# Altium footprint library axsem_connectors_v1-13.PCBLIB: 46 footprints (part 3 of 3)
Each footprint in its own frame and in the unit in brackets; x right, y up, seen from the top. Pads: shape width x height; smd on the part's side, far side on the other; paste and mask are expansions set on the pad; w line width, h text height; cw(c..) or ccw(c..) is an arc to the next point about the centre after c.
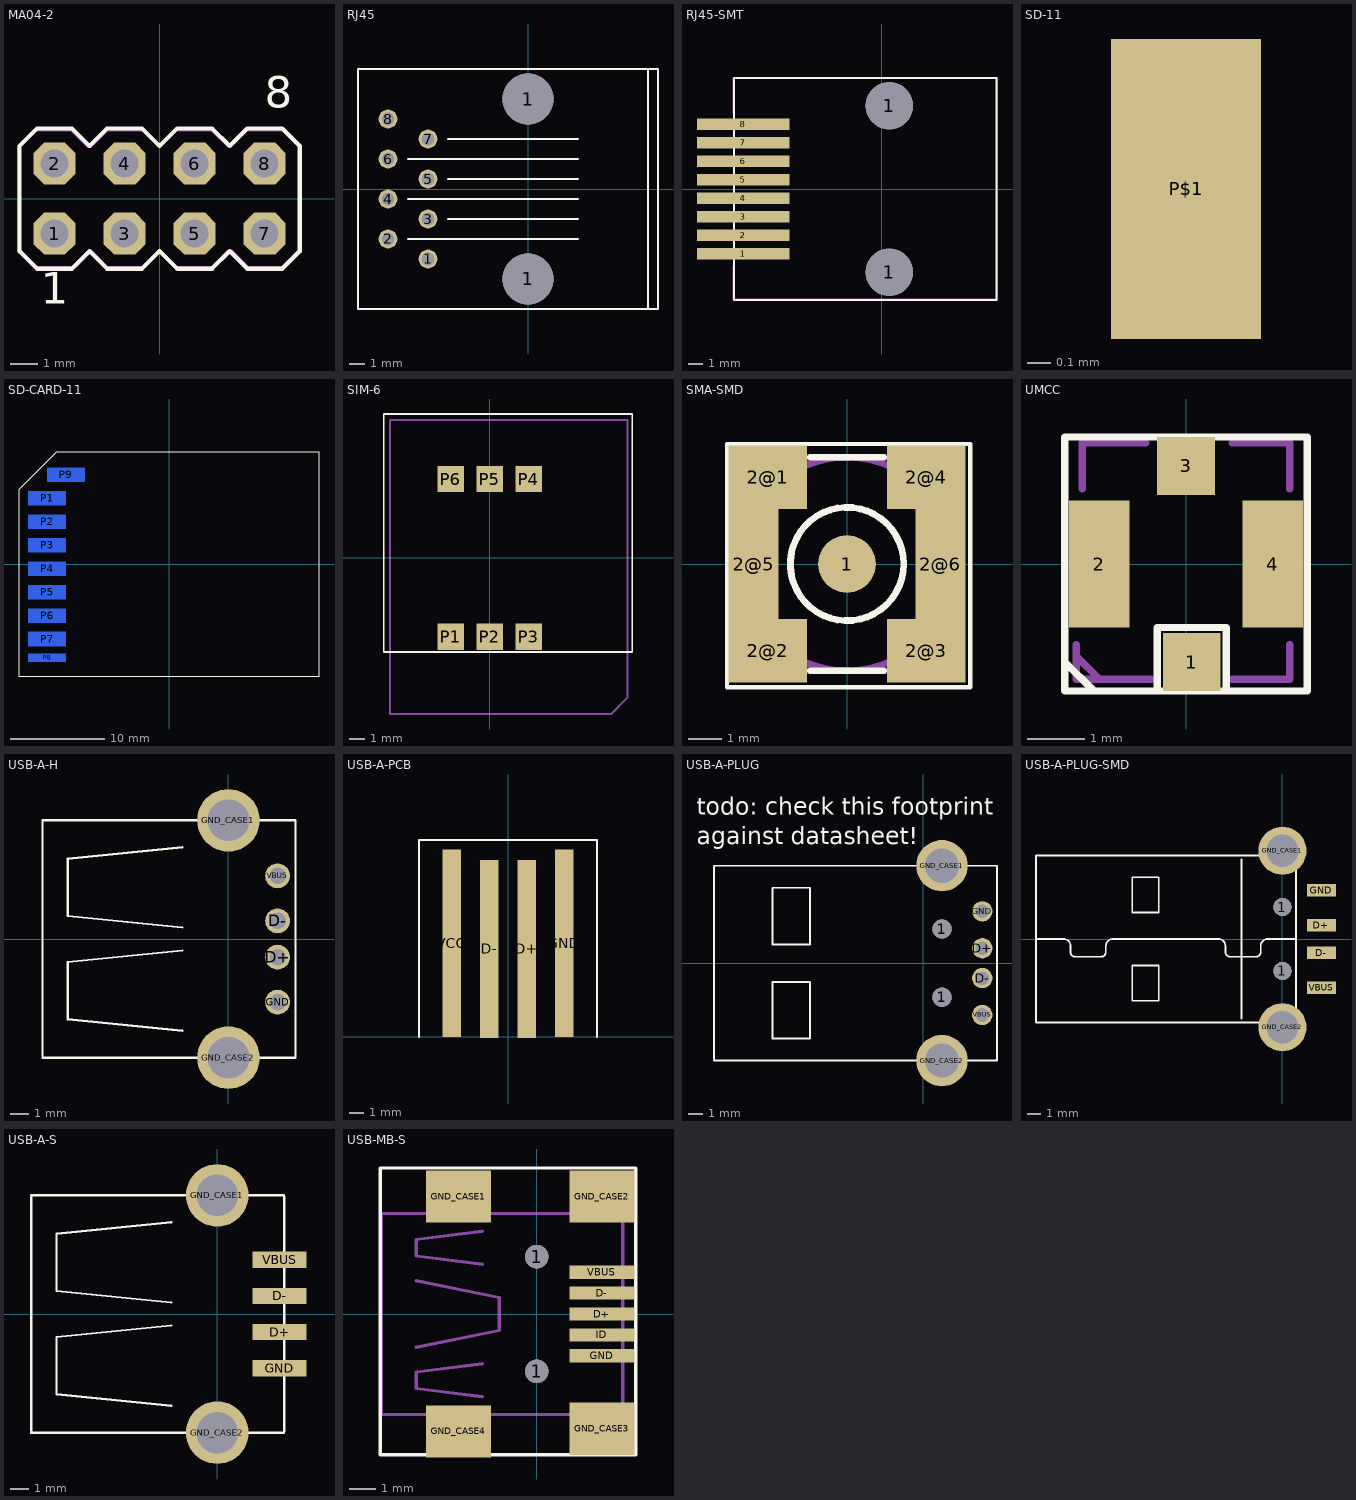
[diagram p2: the footprints below, top view; thin cyan lines are the x and y axes]

## MA04-2 [mil]
pads (8):
  oct 60x60 hole 40: 1(-150,-50) 2(-150,50) 3(-50,-50) 4(-50,50) 5(50,-50) 6(50,50) 7(150,-50) 8(150,50)
Top Overlay:
  lines w6: -200,-75 -200,75 -175,100 -125,100 -100,75 -75,100 -25,100 0,75 25,100 75,100 100,75 125,100 175,100 200,75 200,-75 175,-100 125,-100 100,-75 75,-100 25,-100 0,-75 -25,-100 -75,-100 -100,-75 -125,-100 -175,-100 -200,-75
  text "1" at -170,-165 h77.5
  text "8" at 150,115 h77.5
Mechanical 16:
  rectangle: -60,-60 -40,-40
  rectangle: -160,-60 -140,-40
  rectangle: 40,-60 60,-40
  rectangle: 140,-60 160,-40
  rectangle: -160,40 -140,60
  rectangle: -60,40 -40,60
  rectangle: 40,40 60,60
  rectangle: 140,40 160,60
  lines w5: -200.79,-74.8 -200.79,74.8 -177.17,98.43 -125.98,98.43 -102.36,74.8 -98.43,74.8 -74.8,98.43 -23.62,98.43 0,74.8 23.62,98.43 74.8,98.43 98.43,74.8 122.05,98.43 177.17,98.43 200.79,74.8 200.79,-74.8 177.17,-98.43 125.98,-98.43 102.36,-74.8 98.43,-74.8 74.8,-98.43 23.62,-98.43 0,-74.8 -23.62,-98.43 -74.8,-98.43 -98.43,-74.8 -122.05,-98.43 -177.17,-98.43 -200.79,-74.8

## RJ45 [mil]
pads (10):
  round 47.25 hole 31.5: 1(-250,-175) 2(-350,-125) 3(-250,-75) 4(-350,-25) 5(-250,25) 6(-350,75) 7(-250,125) 8(-350,175)
  round 127.95 hole 127.95: 1(0,-225) 1(0,225)
Top Overlay:
  lines w5: -300,-125 125,-125 ; -300,-25 125,-25 ; -300,75 125,75 ; -200,-75 125,-75 ; -200,25 125,25 ; -200,125 125,125 ; 300,-300 325,-300 325,300 300,300 ; 300,-300 -425,-300 -425,300 300,300 ; 300,-300 300,300

## RJ45-SMT [mil]
pads (10):
  rect 250x30 smd: 1(-375,-175) 2(-375,-125) 3(-375,-75) 4(-375,-25) 5(-375,25) 6(-375,75) 7(-375,125) 8(-375,175)
  round 128 hole 128: 1(20,-225) 1(20,225)
Top Overlay:
  lines w5: -400,-300 -400,300 310,300 310,-300 -400,-300
Mechanical 16:
  lines w5: -401.57,-207.87 -401.57,-298.43 311.02,-298.43 311.02,300 -401.57,300 -401.57,205.51

## SD-11 [mil]
pads (1):
  rect 25x50 smd: P$1(-35.43,-51.18)

## SD-CARD-11 [mm]
pads (9):
  rect 4x1.5 smd far side: P1(-13,7) P2(-13,4.5) P3(-13,2) P4(-13,-0.5) P5(-13,-3) P6(-13,-5.5) P7(-13,-8) P9(-11,9.5)
  rect 4x0.9 smd far side: P8(-13,-10)
Top Overlay:
  lines w0.127: -16,-12 -16,8 -12,12 16,12 16,-12 -16,-12

## SIM-6 [mil]
pads (6):
  rect 68.5x68.5 smd: P1(-101.18,-205.12) P2(0,-205.12) P3(101.18,-205.12) P4(101.18,205.12) P5(0,205.12) P6(-101.18,205.12)
Top Overlay:
  lines w5: -275.59,-244.49 370.08,-244.49 370.08,374.02 -275.59,374.02 -275.59,-244.49
Mechanical 16:
  lines w5: -259.84,358.27 -259.84,-405.51 314.96,-405.51 358.27,-362.2 358.27,358.27 -255.91,358.27

## SMA-SMD [mm]
pads (7):
  rrect100% 1.73x1.73 smd: 1(0,0)
  rect 2.35x1.9 smd: 2@1(-2.375,2.6) 2@2(-2.375,-2.6) 2@3(2.375,-2.6) 2@4(2.375,2.6)
  rect 1.5x3.4 smd: 2@5(-2.8,0) 2@6(2.8,0)
Top Overlay:
  circle w0.203: c0,0 r1.7
  lines w0.127: -3.6,-3.7 -3.6,3.6 3.7,3.6 3.7,-3.7 -3.6,-3.7
  lines w0.203: -1.1,-3.2 1.1,-3.2 ; -1.1,3.2 1.1,3.2
Mechanical 16:
  circle w0.203: c0,0 r3.2
  lines w0.203: -3.2,-3.2 3.2,-3.2 3.2,3.2 -3.2,3.2 -3.2,-3.2

## UMCC [mm]
pads (4):
  rect 1x1 smd: 1(0.1,-1.7) 3(0,1.7)
  rect 1.05x2.2 smd: 2(-1.5,0) 4(1.5,0)
Top Overlay:
  lines w0.127: -2.1,-1.7 -2.1,-2.2 -1.6,-2.2 ; -2.1,-1.7 -2.1,2.2 2.1,2.2 2.1,-2.2 0.7,-2.2 ; -2.1,-1.7 -1.6,-2.2 ; -1.6,-2.2 -0.5,-2.2 ; -0.5,-2.2 0.7,-2.2 ; -0.5,-2.2 -0.5,-1.1 0.7,-1.1 0.7,-2.2
Mechanical 16:
  lines w0.127: -1.9,-1.4 -1.9,-1.6 ; -1.8,1.3 -1.8,2.1 -0.7,2.1 ; -0.6,-2 -1.5,-2 ; 0.8,-2 1.8,-2 1.8,-1.4 ; 0.8,2.1 1.8,2.1 1.8,1.3 ; -1.9,-1.6 -1.9,-2 -1.5,-2 ; -1.9,-1.6 -1.5,-2

## USB-A-H [mil]
pads (6):
  round 54 hole 36: D+(107,-39.5) D-(107,39.5) GND(107,-137.5) VBUS(107,137.5)
  round 136.5 hole 91: GND_CASE1(0,258.5) GND_CASE2(0,-258.5)
Top Overlay:
  lines w5: -405,-258.5 145.5,-258.5 ; -405,-255 -405,255 ; -405,258.5 145.5,258.5 ; -100,-200 -350,-175 -350,-50 -100,-25 ; -100,25 -350,50 -350,175 -100,200 ; 146,-256 146,256

## USB-A-PCB [mil]
pads (4):
  rect 50x475 smd: D+(50,235) D-(-50,235)
  rect 50x500 smd: GND(150,250) VCC(-150,250)
Top Overlay:
  lines w5: -237.5,0 -237.5,525 237.5,525 237.5,0

## USB-A-PLUG [mil]
pads (8):
  round 51.18 hole 51.18: 1(50,-90.55) 1(50,90.55)
  round 54 hole 36: D+(157,39.5) D-(157,-39.5) GND(157,137.5) VBUS(157,-137.5)
  round 136.5 hole 91: GND_CASE1(50,258.5) GND_CASE2(50,-258.5)
Top Overlay:
  lines w5: -555,-258.5 195.5,-258.5 ; -555,-255 -555,255 ; -555,258.5 195.5,258.5 ; 196,-256 196,256 ; -400,-200 -300,-200 -300,-50 -400,-50 -400,-200 ; -400,50 -300,50 -300,200 -400,200 -400,50
  text "todo: check this footprint" at -600,377.5 h77.5
  text "against datasheet!" at -600,300 h77.5

## USB-A-PLUG-SMD [mil]
pads (8):
  round 51.18 hole 51.18: 1(0,-90.55) 1(0,90.55)
  rect 82.68x35.43 smd: D+(110.24,39.37) D-(110.24,-39.37) GND(110.24,137.8) VBUS(110.24,-137.8)
  round 136.5 hole 91: GND_CASE1(0,250) GND_CASE2(0,-250)
Top Overlay:
  lines w5: -115.75,-225 -115.75,225 ; -697.64,0 -697.64,-236.22 38.58,-236.22 38.58,0 ; -697.64,0 -697.64,236.22 38.58,236.22 38.58,0 ; -697.64,0 -619.69,0 cw(c-619.69,-19.69) -600,-19.69 -600,-37.5 ccw(c-587.5,-37.5) -587.5,-50 -512.5,-50 ccw(c-512.5,-37.5) -500,-37.5 -500,-19.69 cw(c-480.31,-19.68) -480.32,0 -181.1,0 cw(c-181.1,-19.68) -161.42,-19.69 -161.42,-37.5 ccw(c-148.92,-37.5) -148.92,-50 -73.92,-50 ccw(c-73.92,-37.5) -61.42,-37.5 -61.42,-19.69 cw(c-41.73,-19.69) -41.73,0 38.58,0 ; -425,-175 -350,-175 -350,-75 -425,-75 -425,-175 ; -425,75 -350,75 -350,175 -425,175 -425,75

## USB-A-S [mil]
pads (6):
  rect 118.11x35.43 smd: D+(135.83,-39.37) D-(135.83,39.37) GND(135.83,-118.11) VBUS(135.83,118.11)
  round 136.5 hole 91: GND_CASE1(0,258.5) GND_CASE2(0,-258.5)
Top Overlay:
  lines w5: -405,-258.5 145.5,-258.5 ; -405,-255 -405,255 ; -405,258.5 145.5,258.5 ; -100,-200 -350,-175 -350,-50 -100,-25 ; -100,25 -350,50 -350,175 -100,200 ; 146,-256 146,256

## USB-MB-S [mm]
pads (11):
  round 0.9 hole 0.9: 1(0,-2.2) 1(0,2.2)
  rect 2.5x0.5 smd: D+(2.5,0) D-(2.5,0.8) GND(2.5,-1.6) ID(2.5,-0.8) VBUS(2.5,1.6)
  rect 2.5x2 smd: GND_CASE1(-3,4.5) GND_CASE2(2.5,4.5) GND_CASE3(2.5,-4.4) GND_CASE4(-3,-4.5)
Top Overlay:
  lines w0.127: -6,-5.4 3.8,-5.4 3.8,5.6 -6,5.6 -6,-5.4
Mechanical 16:
  lines w0.127: -4.615,-1.27 -1.44,-0.635 -1.44,0.635 -4.615,1.27 ; -2.075,-3.175 -4.615,-2.857 -4.615,-2.222 -2.075,-1.905 ; -2.075,1.905 -4.615,2.222 -4.615,2.857 -2.075,3.175 ; -5.95,-3.85 -5.95,3.85 3.3,3.85 3.3,-3.85 -5.95,-3.85